# Altium integrated library Linear Technology Power Management Switching Regulator LTC1174-LTC3901.IntLib: 2647 symbols (part 265 of 364)
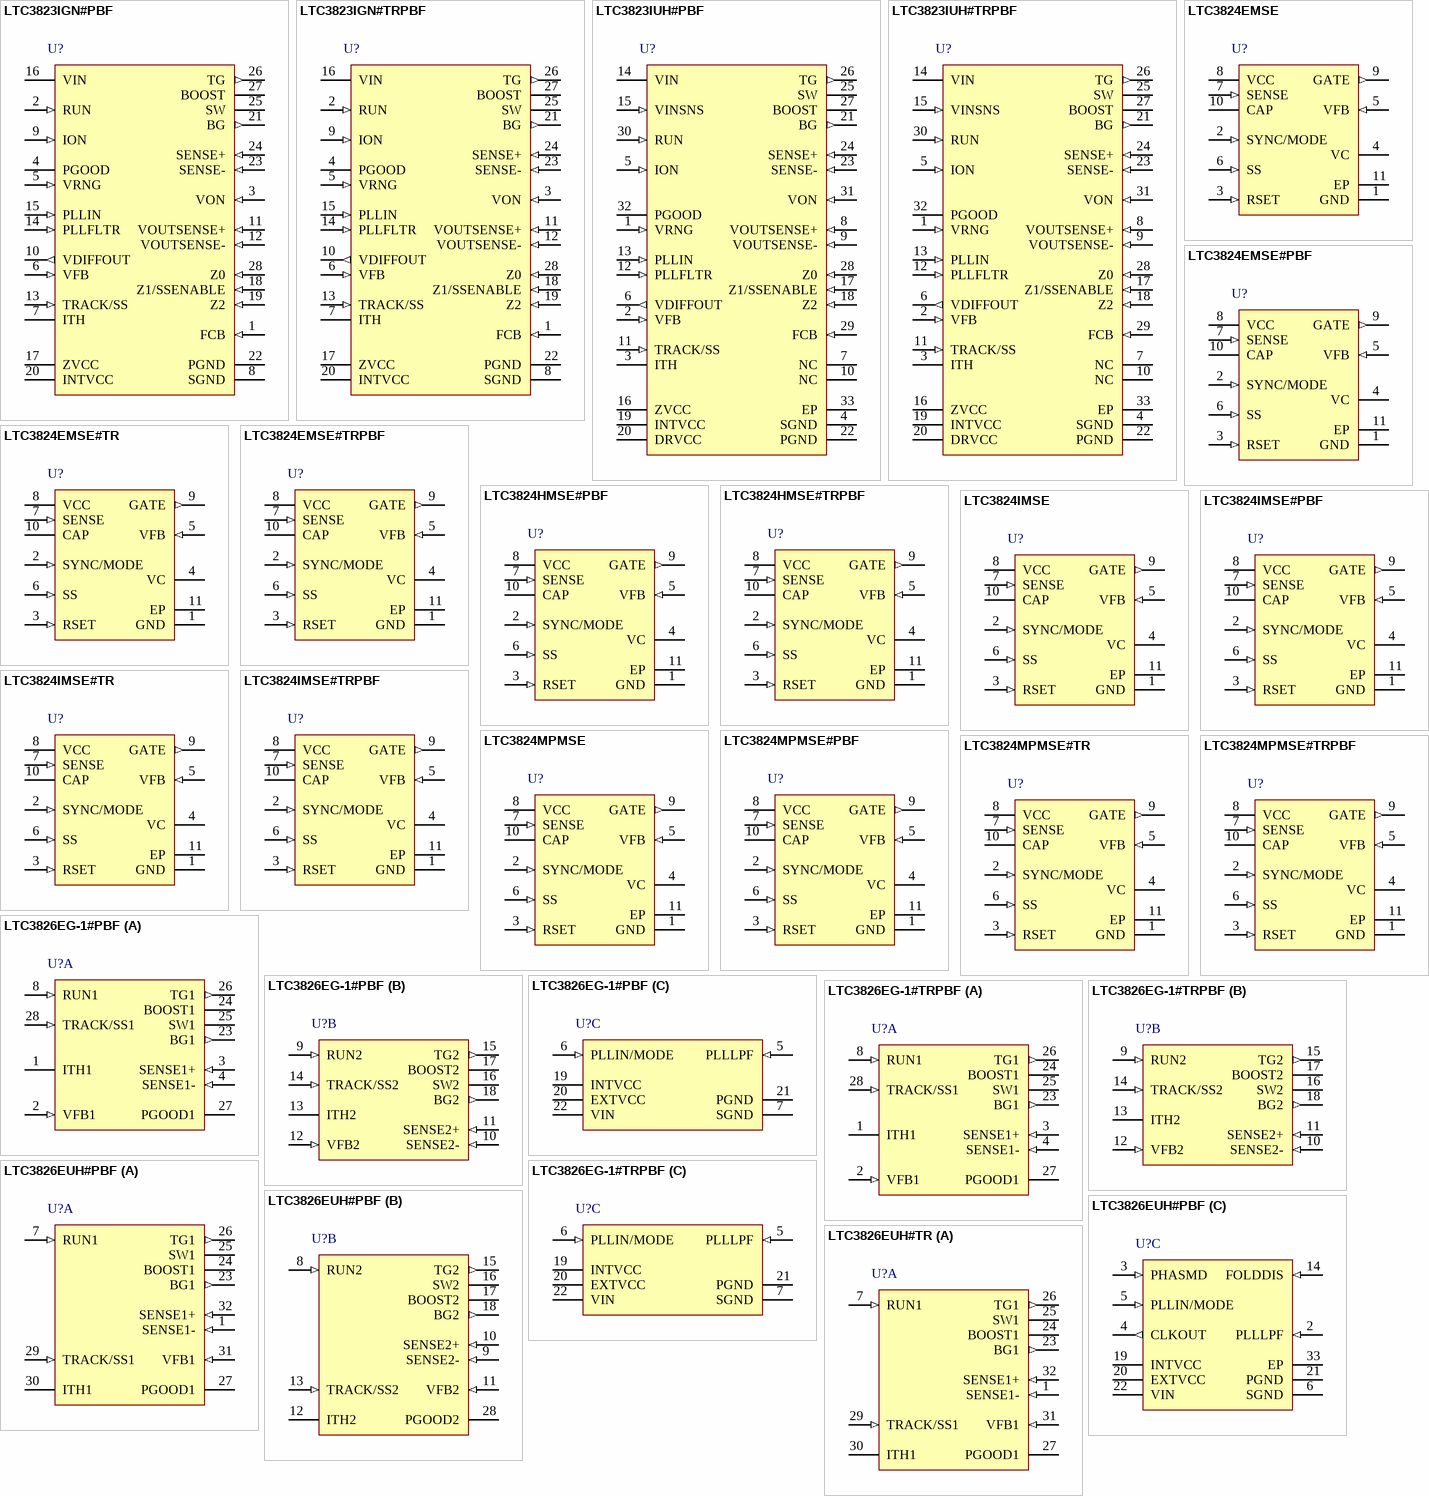
[diagram p252: symbols LTC3823IGN#PBF to LTC3826EUH#TR]

## LTC3824IMSE
designator U?
High Voltage Step-Down Controller with 40 uA Quiescent Current, 10-pin SOP (MSE-10-EDP), -40 to 125 degC; Manufacturer: Linear Technology; PartNumber: LTC3824IMSE; Frequency Sync Range: 200kHz - 600kHz; Number of Outputs: 1; DatasheetVersion: Rev. G; PackageVersion: Rev. I, 05/2013; PackageReference: MSE-10; PackageDescription: 10-Pin Plastic MSOP, Exposed Die Pad, Body 3 x 3 mm, Pitch 0.5 mm; Supplier 1: Newark; Supplier Part Number 1: 56M8528; RoHS: FALSE; Mounting Technology: Surface Mount; ComponentLink1Description: Manufacturer URL; ComponentLink1URL: http://www.linear.com/; ComponentLink2Description: Datasheet; ComponentLink2URL: http://cds.linear.com/docs/en/datasheet/3824fg.pdf; ComponentLink3Description: Package Specification; ComponentLink3URL: http://cds.linear.com/docs/en/packaging/05081664_I_MSE.pdf
footprint LT-MSE-10-EDP_N (SOP, 10-Leads, Body 3.1x3.1mm, Pitch 0.5mm, Thermal Pad 1.88x1.68mm, IPC Medium Density)
footprint LT-MSE-10-EDP_L (SOP, 10-Leads, Body 3.1x3.1mm, Pitch 0.5mm, Thermal Pad 1.88x1.68mm, IPC High Density)
footprint LT-MSE-10-EDP_M (SOP, 10-Leads, Body 3.1x3.1mm, Pitch 0.5mm, Thermal Pad 1.88x1.68mm, IPC Low Density)
pins: 1 GND (power) "Chip Ground Pin.", 2 SYNC/MODE (in) "Synchronization Input and Burst Mode Operation Enable/Disable. If this pin is left open or pulled higher than 2V, Burst Mode operation will be enabled at light load and the typical threshold of entering Burst Mode operation (See Datasheet)", 3 RSET (in) "A resistor from RSET to ground sets the LTC3824 switching frequency.", 4 VC "The Output of the voltage error amplifier gm and the control signal of the current mode PWM control loop. Switching starts at 0.7V, and higher VC corresponds to higher inductor current. When VC is pulled below 25mV, the (See Datasheet)", 5 VFB (in) "Error Amplifier Inverting Input. A resistor divider to this pin sets the output voltage. When VFB is less than 0.5V, the switching frequency will fold back to 50kHz to reduce the minimum on-cycle.", 6 SS (in) "Soft-Start Pin. A capacitor on this pin sets the output ramp-up rate. The typical time for SS to reach the programmed level is (C • 0.8V)/5uA.", 7 SENSE (in) "Current Sense Input Pin. A sense resistor, RS, from VIN to SENSE sets the current limit to 100mV/RS.", 8 VCC (power) "Chip Power Supply. Power supply bypassing is required.", 9 GATE (out) "Gate Drive for The External P-channel MOSFET. Typical peak drive current is 2.5A and the drive voltage is clamped to 8V when VCC is higher than 9V.", 10 CAP "A Low ESR Capacitor of at Least 0.1uF is required from this pin to VCC to bypass the internal regulator for biasing the gate driver circuitry.", 11 EP (power) "Ground. Must be soldered to PCB with expanded metal trace for rated thermal performance."

## LTC3824IMSE#PBF
designator U?
High Voltage Step-Down Controller with 40 uA Quiescent Current, 10-pin SOP (MSE-10-EDP), -40 to 125 degC, Pb-Free; Manufacturer: Linear Technology; PartNumber: LTC3824IMSE#PBF; Frequency Sync Range: 200kHz - 600kHz; Number of Outputs: 1; DatasheetVersion: Rev. G; PackageVersion: Rev. I, 05/2013; PackageReference: MSE-10; PackageDescription: 10-Pin Plastic MSOP, Exposed Die Pad, Body 3 x 3 mm, Pitch 0.5 mm; Supplier 1: Digi-Key; Supplier Part Number 1: LTC3824IMSE#PBF-ND; Supplier 2: Farnell; Supplier Part Number 2: 2295158; Supplier 3: Newark; Supplier Part Number 3: 56M8529; RoHS: TRUE; Mounting Technology: Surface Mount; ComponentLink1Description: Manufacturer URL; ComponentLink1URL: http://www.linear.com/; ComponentLink2Description: Datasheet; ComponentLink2URL: http://cds.linear.com/docs/en/datasheet/3824fg.pdf; ComponentLink3Description: Package Specification; ComponentLink3URL: http://cds.linear.com/docs/en/packaging/05081664_I_MSE.pdf
footprint LT-MSE-10-EDP_N (SOP, 10-Leads, Body 3.1x3.1mm, Pitch 0.5mm, Thermal Pad 1.88x1.68mm, IPC Medium Density)
footprint LT-MSE-10-EDP_L (SOP, 10-Leads, Body 3.1x3.1mm, Pitch 0.5mm, Thermal Pad 1.88x1.68mm, IPC High Density)
footprint LT-MSE-10-EDP_M (SOP, 10-Leads, Body 3.1x3.1mm, Pitch 0.5mm, Thermal Pad 1.88x1.68mm, IPC Low Density)
pins: 1 GND (power) "Chip Ground Pin.", 2 SYNC/MODE (in) "Synchronization Input and Burst Mode Operation Enable/Disable. If this pin is left open or pulled higher than 2V, Burst Mode operation will be enabled at light load and the typical threshold of entering Burst Mode operation (See Datasheet)", 3 RSET (in) "A resistor from RSET to ground sets the LTC3824 switching frequency.", 4 VC "The Output of the voltage error amplifier gm and the control signal of the current mode PWM control loop. Switching starts at 0.7V, and higher VC corresponds to higher inductor current. When VC is pulled below 25mV, the (See Datasheet)", 5 VFB (in) "Error Amplifier Inverting Input. A resistor divider to this pin sets the output voltage. When VFB is less than 0.5V, the switching frequency will fold back to 50kHz to reduce the minimum on-cycle.", 6 SS (in) "Soft-Start Pin. A capacitor on this pin sets the output ramp-up rate. The typical time for SS to reach the programmed level is (C • 0.8V)/5uA.", 7 SENSE (in) "Current Sense Input Pin. A sense resistor, RS, from VIN to SENSE sets the current limit to 100mV/RS.", 8 VCC (power) "Chip Power Supply. Power supply bypassing is required.", 9 GATE (out) "Gate Drive for The External P-channel MOSFET. Typical peak drive current is 2.5A and the drive voltage is clamped to 8V when VCC is higher than 9V.", 10 CAP "A Low ESR Capacitor of at Least 0.1uF is required from this pin to VCC to bypass the internal regulator for biasing the gate driver circuitry.", 11 EP (power) "Ground. Must be soldered to PCB with expanded metal trace for rated thermal performance."

## LTC3824IMSE#TR
designator U?
High Voltage Step-Down Controller with 40 uA Quiescent Current, 10-pin SOP (MSE-10-EDP), -40 to 125 degC, Tape and Reel; Manufacturer: Linear Technology; PartNumber: LTC3824IMSE#TR; Frequency Sync Range: 200kHz - 600kHz; Number of Outputs: 1; DatasheetVersion: Rev. G; PackageVersion: Rev. I, 05/2013; PackageReference: MSE-10; PackageDescription: 10-Pin Plastic MSOP, Exposed Die Pad, Body 3 x 3 mm, Pitch 0.5 mm; Packing: Tape and Reel; RoHS: FALSE; Mounting Technology: Surface Mount; ComponentLink1Description: Manufacturer URL; ComponentLink1URL: http://www.linear.com/; ComponentLink2Description: Datasheet; ComponentLink2URL: http://cds.linear.com/docs/en/datasheet/3824fg.pdf; ComponentLink3Description: Package Specification; ComponentLink3URL: http://cds.linear.com/docs/en/packaging/05081664_I_MSE.pdf
footprint LT-MSE-10-EDP_N (SOP, 10-Leads, Body 3.1x3.1mm, Pitch 0.5mm, Thermal Pad 1.88x1.68mm, IPC Medium Density)
footprint LT-MSE-10-EDP_L (SOP, 10-Leads, Body 3.1x3.1mm, Pitch 0.5mm, Thermal Pad 1.88x1.68mm, IPC High Density)
footprint LT-MSE-10-EDP_M (SOP, 10-Leads, Body 3.1x3.1mm, Pitch 0.5mm, Thermal Pad 1.88x1.68mm, IPC Low Density)
pins: 1 GND (power) "Chip Ground Pin.", 2 SYNC/MODE (in) "Synchronization Input and Burst Mode Operation Enable/Disable. If this pin is left open or pulled higher than 2V, Burst Mode operation will be enabled at light load and the typical threshold of entering Burst Mode operation (See Datasheet)", 3 RSET (in) "A resistor from RSET to ground sets the LTC3824 switching frequency.", 4 VC "The Output of the voltage error amplifier gm and the control signal of the current mode PWM control loop. Switching starts at 0.7V, and higher VC corresponds to higher inductor current. When VC is pulled below 25mV, the (See Datasheet)", 5 VFB (in) "Error Amplifier Inverting Input. A resistor divider to this pin sets the output voltage. When VFB is less than 0.5V, the switching frequency will fold back to 50kHz to reduce the minimum on-cycle.", 6 SS (in) "Soft-Start Pin. A capacitor on this pin sets the output ramp-up rate. The typical time for SS to reach the programmed level is (C • 0.8V)/5uA.", 7 SENSE (in) "Current Sense Input Pin. A sense resistor, RS, from VIN to SENSE sets the current limit to 100mV/RS.", 8 VCC (power) "Chip Power Supply. Power supply bypassing is required.", 9 GATE (out) "Gate Drive for The External P-channel MOSFET. Typical peak drive current is 2.5A and the drive voltage is clamped to 8V when VCC is higher than 9V.", 10 CAP "A Low ESR Capacitor of at Least 0.1uF is required from this pin to VCC to bypass the internal regulator for biasing the gate driver circuitry.", 11 EP (power) "Ground. Must be soldered to PCB with expanded metal trace for rated thermal performance."

## LTC3824IMSE#TRPBF
designator U?
High Voltage Step-Down Controller with 40 uA Quiescent Current, 10-pin SOP (MSE-10-EDP), -40 to 125 degC, Pb-Free, Tape and Reel; Manufacturer: Linear Technology; PartNumber: LTC3824IMSE#TRPBF; Frequency Sync Range: 200kHz - 600kHz; Number of Outputs: 1; DatasheetVersion: Rev. G; PackageVersion: Rev. I, 05/2013; PackageReference: MSE-10; PackageDescription: 10-Pin Plastic MSOP, Exposed Die Pad, Body 3 x 3 mm, Pitch 0.5 mm; Supplier 1: Digi-Key; Supplier Part Number 1: LTC3824IMSE#TRPBF-ND; Supplier 2: Newark; Supplier Part Number 2: 56M8531; Packing: Tape and Reel; RoHS: TRUE; Mounting Technology: Surface Mount; ComponentLink1Description: Manufacturer URL; ComponentLink1URL: http://www.linear.com/; ComponentLink2Description: Datasheet; ComponentLink2URL: http://cds.linear.com/docs/en/datasheet/3824fg.pdf; ComponentLink3Description: Package Specification; ComponentLink3URL: http://cds.linear.com/docs/en/packaging/05081664_I_MSE.pdf
footprint LT-MSE-10-EDP_N (SOP, 10-Leads, Body 3.1x3.1mm, Pitch 0.5mm, Thermal Pad 1.88x1.68mm, IPC Medium Density)
footprint LT-MSE-10-EDP_L (SOP, 10-Leads, Body 3.1x3.1mm, Pitch 0.5mm, Thermal Pad 1.88x1.68mm, IPC High Density)
footprint LT-MSE-10-EDP_M (SOP, 10-Leads, Body 3.1x3.1mm, Pitch 0.5mm, Thermal Pad 1.88x1.68mm, IPC Low Density)
pins: 1 GND (power) "Chip Ground Pin.", 2 SYNC/MODE (in) "Synchronization Input and Burst Mode Operation Enable/Disable. If this pin is left open or pulled higher than 2V, Burst Mode operation will be enabled at light load and the typical threshold of entering Burst Mode operation (See Datasheet)", 3 RSET (in) "A resistor from RSET to ground sets the LTC3824 switching frequency.", 4 VC "The Output of the voltage error amplifier gm and the control signal of the current mode PWM control loop. Switching starts at 0.7V, and higher VC corresponds to higher inductor current. When VC is pulled below 25mV, the (See Datasheet)", 5 VFB (in) "Error Amplifier Inverting Input. A resistor divider to this pin sets the output voltage. When VFB is less than 0.5V, the switching frequency will fold back to 50kHz to reduce the minimum on-cycle.", 6 SS (in) "Soft-Start Pin. A capacitor on this pin sets the output ramp-up rate. The typical time for SS to reach the programmed level is (C • 0.8V)/5uA.", 7 SENSE (in) "Current Sense Input Pin. A sense resistor, RS, from VIN to SENSE sets the current limit to 100mV/RS.", 8 VCC (power) "Chip Power Supply. Power supply bypassing is required.", 9 GATE (out) "Gate Drive for The External P-channel MOSFET. Typical peak drive current is 2.5A and the drive voltage is clamped to 8V when VCC is higher than 9V.", 10 CAP "A Low ESR Capacitor of at Least 0.1uF is required from this pin to VCC to bypass the internal regulator for biasing the gate driver circuitry.", 11 EP (power) "Ground. Must be soldered to PCB with expanded metal trace for rated thermal performance."

## LTC3824MPMSE
designator U?
High Voltage Step-Down Controller with 40 uA Quiescent Current, 10-pin SOP (MSE-10-EDP), -55 to 150 degC; Manufacturer: Linear Technology; PartNumber: LTC3824MPMSE; Frequency Sync Range: 200kHz - 600kHz; Number of Outputs: 1; DatasheetVersion: Rev. G; PackageVersion: Rev. I, 05/2013; PackageReference: MSE-10; PackageDescription: 10-Pin Plastic MSOP, Exposed Die Pad, Body 3 x 3 mm, Pitch 0.5 mm; Supplier 1: Newark; Supplier Part Number 1: 51P4598; RoHS: FALSE; Mounting Technology: Surface Mount; ComponentLink1Description: Manufacturer URL; ComponentLink1URL: http://www.linear.com/; ComponentLink2Description: Datasheet; ComponentLink2URL: http://cds.linear.com/docs/en/datasheet/3824fg.pdf; ComponentLink3Description: Package Specification; ComponentLink3URL: http://cds.linear.com/docs/en/packaging/05081664_I_MSE.pdf
footprint LT-MSE-10-EDP_N (SOP, 10-Leads, Body 3.1x3.1mm, Pitch 0.5mm, Thermal Pad 1.88x1.68mm, IPC Medium Density)
footprint LT-MSE-10-EDP_L (SOP, 10-Leads, Body 3.1x3.1mm, Pitch 0.5mm, Thermal Pad 1.88x1.68mm, IPC High Density)
footprint LT-MSE-10-EDP_M (SOP, 10-Leads, Body 3.1x3.1mm, Pitch 0.5mm, Thermal Pad 1.88x1.68mm, IPC Low Density)
pins: 1 GND (power) "Chip Ground Pin.", 2 SYNC/MODE (in) "Synchronization Input and Burst Mode Operation Enable/Disable. If this pin is left open or pulled higher than 2V, Burst Mode operation will be enabled at light load and the typical threshold of entering Burst Mode operation (See Datasheet)", 3 RSET (in) "A resistor from RSET to ground sets the LTC3824 switching frequency.", 4 VC "The Output of the voltage error amplifier gm and the control signal of the current mode PWM control loop. Switching starts at 0.7V, and higher VC corresponds to higher inductor current. When VC is pulled below 25mV, the (See Datasheet)", 5 VFB (in) "Error Amplifier Inverting Input. A resistor divider to this pin sets the output voltage. When VFB is less than 0.5V, the switching frequency will fold back to 50kHz to reduce the minimum on-cycle.", 6 SS (in) "Soft-Start Pin. A capacitor on this pin sets the output ramp-up rate. The typical time for SS to reach the programmed level is (C • 0.8V)/5uA.", 7 SENSE (in) "Current Sense Input Pin. A sense resistor, RS, from VIN to SENSE sets the current limit to 100mV/RS.", 8 VCC (power) "Chip Power Supply. Power supply bypassing is required.", 9 GATE (out) "Gate Drive for The External P-channel MOSFET. Typical peak drive current is 2.5A and the drive voltage is clamped to 8V when VCC is higher than 9V.", 10 CAP "A Low ESR Capacitor of at Least 0.1uF is required from this pin to VCC to bypass the internal regulator for biasing the gate driver circuitry.", 11 EP (power) "Ground. Must be soldered to PCB with expanded metal trace for rated thermal performance."

## LTC3824MPMSE#PBF
designator U?
High Voltage Step-Down Controller with 40 uA Quiescent Current, 10-pin SOP (MSE-10-EDP), -55 to 150 degC, Pb-Free; Manufacturer: Linear Technology; PartNumber: LTC3824MPMSE#PBF; Frequency Sync Range: 200kHz - 600kHz; Number of Outputs: 1; DatasheetVersion: Rev. G; PackageVersion: Rev. I, 05/2013; PackageReference: MSE-10; PackageDescription: 10-Pin Plastic MSOP, Exposed Die Pad, Body 3 x 3 mm, Pitch 0.5 mm; Supplier 1: Digi-Key; Supplier Part Number 1: LTC3824MPMSE#PBF-ND; Supplier 2: Farnell; Supplier Part Number 2: 2295159; Supplier 3: Newark; Supplier Part Number 3: 78T3253; RoHS: TRUE; Mounting Technology: Surface Mount; ComponentLink1Description: Manufacturer URL; ComponentLink1URL: http://www.linear.com/; ComponentLink2Description: Datasheet; ComponentLink2URL: http://cds.linear.com/docs/en/datasheet/3824fg.pdf; ComponentLink3Description: Package Specification; ComponentLink3URL: http://cds.linear.com/docs/en/packaging/05081664_I_MSE.pdf
footprint LT-MSE-10-EDP_N (SOP, 10-Leads, Body 3.1x3.1mm, Pitch 0.5mm, Thermal Pad 1.88x1.68mm, IPC Medium Density)
footprint LT-MSE-10-EDP_L (SOP, 10-Leads, Body 3.1x3.1mm, Pitch 0.5mm, Thermal Pad 1.88x1.68mm, IPC High Density)
footprint LT-MSE-10-EDP_M (SOP, 10-Leads, Body 3.1x3.1mm, Pitch 0.5mm, Thermal Pad 1.88x1.68mm, IPC Low Density)
pins: 1 GND (power) "Chip Ground Pin.", 2 SYNC/MODE (in) "Synchronization Input and Burst Mode Operation Enable/Disable. If this pin is left open or pulled higher than 2V, Burst Mode operation will be enabled at light load and the typical threshold of entering Burst Mode operation (See Datasheet)", 3 RSET (in) "A resistor from RSET to ground sets the LTC3824 switching frequency.", 4 VC "The Output of the voltage error amplifier gm and the control signal of the current mode PWM control loop. Switching starts at 0.7V, and higher VC corresponds to higher inductor current. When VC is pulled below 25mV, the (See Datasheet)", 5 VFB (in) "Error Amplifier Inverting Input. A resistor divider to this pin sets the output voltage. When VFB is less than 0.5V, the switching frequency will fold back to 50kHz to reduce the minimum on-cycle.", 6 SS (in) "Soft-Start Pin. A capacitor on this pin sets the output ramp-up rate. The typical time for SS to reach the programmed level is (C • 0.8V)/5uA.", 7 SENSE (in) "Current Sense Input Pin. A sense resistor, RS, from VIN to SENSE sets the current limit to 100mV/RS.", 8 VCC (power) "Chip Power Supply. Power supply bypassing is required.", 9 GATE (out) "Gate Drive for The External P-channel MOSFET. Typical peak drive current is 2.5A and the drive voltage is clamped to 8V when VCC is higher than 9V.", 10 CAP "A Low ESR Capacitor of at Least 0.1uF is required from this pin to VCC to bypass the internal regulator for biasing the gate driver circuitry.", 11 EP (power) "Ground. Must be soldered to PCB with expanded metal trace for rated thermal performance."

## LTC3824MPMSE#TR
designator U?
High Voltage Step-Down Controller with 40 uA Quiescent Current, 10-pin SOP (MSE-10-EDP), -55 to 150 degC, Tape and Reel; Manufacturer: Linear Technology; PartNumber: LTC3824MPMSE#TR; Frequency Sync Range: 200kHz - 600kHz; Number of Outputs: 1; DatasheetVersion: Rev. G; PackageVersion: Rev. I, 05/2013; PackageReference: MSE-10; PackageDescription: 10-Pin Plastic MSOP, Exposed Die Pad, Body 3 x 3 mm, Pitch 0.5 mm; Packing: Tape and Reel; RoHS: FALSE; Mounting Technology: Surface Mount; ComponentLink1Description: Manufacturer URL; ComponentLink1URL: http://www.linear.com/; ComponentLink2Description: Datasheet; ComponentLink2URL: http://cds.linear.com/docs/en/datasheet/3824fg.pdf; ComponentLink3Description: Package Specification; ComponentLink3URL: http://cds.linear.com/docs/en/packaging/05081664_I_MSE.pdf
footprint LT-MSE-10-EDP_N (SOP, 10-Leads, Body 3.1x3.1mm, Pitch 0.5mm, Thermal Pad 1.88x1.68mm, IPC Medium Density)
footprint LT-MSE-10-EDP_L (SOP, 10-Leads, Body 3.1x3.1mm, Pitch 0.5mm, Thermal Pad 1.88x1.68mm, IPC High Density)
footprint LT-MSE-10-EDP_M (SOP, 10-Leads, Body 3.1x3.1mm, Pitch 0.5mm, Thermal Pad 1.88x1.68mm, IPC Low Density)
pins: 1 GND (power) "Chip Ground Pin.", 2 SYNC/MODE (in) "Synchronization Input and Burst Mode Operation Enable/Disable. If this pin is left open or pulled higher than 2V, Burst Mode operation will be enabled at light load and the typical threshold of entering Burst Mode operation (See Datasheet)", 3 RSET (in) "A resistor from RSET to ground sets the LTC3824 switching frequency.", 4 VC "The Output of the voltage error amplifier gm and the control signal of the current mode PWM control loop. Switching starts at 0.7V, and higher VC corresponds to higher inductor current. When VC is pulled below 25mV, the (See Datasheet)", 5 VFB (in) "Error Amplifier Inverting Input. A resistor divider to this pin sets the output voltage. When VFB is less than 0.5V, the switching frequency will fold back to 50kHz to reduce the minimum on-cycle.", 6 SS (in) "Soft-Start Pin. A capacitor on this pin sets the output ramp-up rate. The typical time for SS to reach the programmed level is (C • 0.8V)/5uA.", 7 SENSE (in) "Current Sense Input Pin. A sense resistor, RS, from VIN to SENSE sets the current limit to 100mV/RS.", 8 VCC (power) "Chip Power Supply. Power supply bypassing is required.", 9 GATE (out) "Gate Drive for The External P-channel MOSFET. Typical peak drive current is 2.5A and the drive voltage is clamped to 8V when VCC is higher than 9V.", 10 CAP "A Low ESR Capacitor of at Least 0.1uF is required from this pin to VCC to bypass the internal regulator for biasing the gate driver circuitry.", 11 EP (power) "Ground. Must be soldered to PCB with expanded metal trace for rated thermal performance."

## LTC3824MPMSE#TRPBF
designator U?
High Voltage Step-Down Controller with 40 uA Quiescent Current, 10-pin SOP (MSE-10-EDP), -55 to 150 degC, Pb-Free, Tape and Reel; Manufacturer: Linear Technology; PartNumber: LTC3824MPMSE#TRPBF; Frequency Sync Range: 200kHz - 600kHz; Number of Outputs: 1; DatasheetVersion: Rev. G; PackageVersion: Rev. I, 05/2013; PackageReference: MSE-10; PackageDescription: 10-Pin Plastic MSOP, Exposed Die Pad, Body 3 x 3 mm, Pitch 0.5 mm; Supplier 1: Digi-Key; Supplier Part Number 1: LTC3824MPMSE#TRPBF-ND; Packing: Tape and Reel; RoHS: TRUE; Mounting Technology: Surface Mount; ComponentLink1Description: Manufacturer URL; ComponentLink1URL: http://www.linear.com/; ComponentLink2Description: Datasheet; ComponentLink2URL: http://cds.linear.com/docs/en/datasheet/3824fg.pdf; ComponentLink3Description: Package Specification; ComponentLink3URL: http://cds.linear.com/docs/en/packaging/05081664_I_MSE.pdf
footprint LT-MSE-10-EDP_N (SOP, 10-Leads, Body 3.1x3.1mm, Pitch 0.5mm, Thermal Pad 1.88x1.68mm, IPC Medium Density)
footprint LT-MSE-10-EDP_L (SOP, 10-Leads, Body 3.1x3.1mm, Pitch 0.5mm, Thermal Pad 1.88x1.68mm, IPC High Density)
footprint LT-MSE-10-EDP_M (SOP, 10-Leads, Body 3.1x3.1mm, Pitch 0.5mm, Thermal Pad 1.88x1.68mm, IPC Low Density)
pins: 1 GND (power) "Chip Ground Pin.", 2 SYNC/MODE (in) "Synchronization Input and Burst Mode Operation Enable/Disable. If this pin is left open or pulled higher than 2V, Burst Mode operation will be enabled at light load and the typical threshold of entering Burst Mode operation (See Datasheet)", 3 RSET (in) "A resistor from RSET to ground sets the LTC3824 switching frequency.", 4 VC "The Output of the voltage error amplifier gm and the control signal of the current mode PWM control loop. Switching starts at 0.7V, and higher VC corresponds to higher inductor current. When VC is pulled below 25mV, the (See Datasheet)", 5 VFB (in) "Error Amplifier Inverting Input. A resistor divider to this pin sets the output voltage. When VFB is less than 0.5V, the switching frequency will fold back to 50kHz to reduce the minimum on-cycle.", 6 SS (in) "Soft-Start Pin. A capacitor on this pin sets the output ramp-up rate. The typical time for SS to reach the programmed level is (C • 0.8V)/5uA.", 7 SENSE (in) "Current Sense Input Pin. A sense resistor, RS, from VIN to SENSE sets the current limit to 100mV/RS.", 8 VCC (power) "Chip Power Supply. Power supply bypassing is required.", 9 GATE (out) "Gate Drive for The External P-channel MOSFET. Typical peak drive current is 2.5A and the drive voltage is clamped to 8V when VCC is higher than 9V.", 10 CAP "A Low ESR Capacitor of at Least 0.1uF is required from this pin to VCC to bypass the internal regulator for biasing the gate driver circuitry.", 11 EP (power) "Ground. Must be soldered to PCB with expanded metal trace for rated thermal performance."

## LTC3826EG-1#PBF
designator U?
30 uA IQ, Dual, 2-Phase Synchronous Step-Down Controller, 28-pin SOP (G-28), -40 to 85 degC, Pb-Free; Manufacturer: Linear Technology; PartNumber: LTC3826EG-1#PBF; Frequency Sync Range: 140kHz - 650kHz; Number of Outputs: 2; DatasheetVersion: Rev. B; PackageVersion: Jun-10; PackageReference: G-28; PackageDescription: 28-Pin Plastic SSOP, Body 10.2 x 5.3 mm, Pitch 0.65 mm; Supplier 1: Digi-Key; Supplier Part Number 1: LTC3826EG-1#PBF-ND; RoHS: TRUE; Mounting Technology: Surface Mount; ComponentLink1Description: Manufacturer URL; ComponentLink1URL: http://www.linear.com/; ComponentLink2Description: Datasheet; ComponentLink2URL: http://cds.linear.com/docs/en/datasheet/38261fb.pdf; ComponentLink3Description: Package Specification; ComponentLink3URL: http://cds.linear.com/docs/en/packaging/SSOP_28_05-08-1640.pdf
footprint LT-G-28_N (SOP, 28-Leads, Body 10.2x5.3mm, Pitch 0.65mm, IPC Medium Density)
footprint LT-G-28_L (SOP, 28-Leads, Body 10.2x5.3mm, Pitch 0.65mm, IPC High Density)
footprint LT-G-28_M (SOP, 28-Leads, Body 10.2x5.3mm, Pitch 0.65mm, IPC Low Density)
part A pins: 1 ITH1 "Error Amplifier Outputs and Switching Regulator Compensation Points. Each associated channel’s current comparator trip point increases with this control voltage.", 2 VFB1 (in) "Receives the remotely sensed feedback voltage for each controller from an external resistive divider across the output.", 3 SENSE1+ (in) "The (+) Input to the Differential Current Comparators. The ITH pin voltage and controlled offsets between the SENSE- and SENSE+ pins in conjunction with RSENSE set the current trip threshold.", 4 SENSE1- (in) "The (-) Input to the Differential Current Comparators.", 8 RUN1 (in) "Digital Run Control Inputs for Each Controller. Forcing either of these pins below 0.7V shuts down that controller.", 23 BG1 (out) "High Current Gate Drives for Bottom (Synchronous) N-Channel MOSFETs. Voltage swing at these pins is from ground to INTVCC.", 24 BOOST1 "Bootstrapped Supplies to the Topside Floating Drivers. Capacitors are connected between the BOOST and SW pins and Schottky diodes are tied between the BOOST and INTVCC pins. Voltage swing at the BOOST pins is from INTVCC to (See Datasheet)", 25 SW1 "Switch Node Connections to Inductors. Voltage swing at these pins is from a Schottky diode (external) voltage drop below ground to VIN.", 26 TG1 (out) "High Current Gate Drives for Top N-Channel MOSFETs. These are the outputs of floating drivers with a voltage swing equal to INTVCC - 0.5V superimposed on the switch node voltage SW.", 27 PGOOD1 (oc) "Open-Drain Logic Output. PGOOD1 is pulled to ground when the voltage on the VFB1 pin is not within +/-10% of its set point.", 28 TRACK/SS1 (in) "External Tracking and Soft-Start Input."
part B pins: 9 RUN2 (in) "Digital Run Control Inputs for Each Controller. Forcing either of these pins below 0.7V shuts down that controller.", 10 SENSE2- (in) "The (-) Input to the Differential Current Comparators.", 11 SENSE2+ (in) "The (+) Input to the Differential Current Comparators. The ITH pin voltage and controlled offsets between the SENSE- and SENSE+ pins in conjunction with RSENSE set the current trip threshold.", 12 VFB2 (in) "Receives the remotely sensed feedback voltage for each controller from an external resistive divider across the output.", 13 ITH2 "Error Amplifier Outputs and Switching Regulator Compensation Points. Each associated channel’s current comparator trip point increases with this control voltage.", 14 TRACK/SS2 (in) "External Tracking and Soft-Start Input.", 15 TG2 (out) "High Current Gate Drives for Top N-Channel MOSFETs. These are the outputs of floating drivers with a voltage swing equal to INTVCC - 0.5V superimposed on the switch node voltage SW.", 16 SW2 "Switch Node Connections to Inductors. Voltage swing at these pins is from a Schottky diode (external) voltage drop below ground to VIN.", 17 BOOST2 "Bootstrapped Supplies to the Topside Floating Drivers. Capacitors are connected between the BOOST and SW pins and Schottky diodes are tied between the BOOST and INTVCC pins. Voltage swing at the BOOST pins is from INTVCC to (See Datasheet)", 18 BG2 (out) "High Current Gate Drives for Bottom (Synchronous) N-Channel MOSFETs. Voltage swing at these pins is from ground to INTVCC."
part C pins: 5 PLLLPF (in) "The phase-locked loop’s lowpass filter is tied to this pin when synchronizing to an external clock.", 6 PLLIN/MODE (in) "External Synchronization Input to Phase Detector and Forced Continuous Control Input.", 7 SGND (power) "Small-signal Ground common to both controllers, must be routed separately from high current grounds to the common (-) terminals of the CIN capacitors.", 19 INTVCC (power) "Output of the Internal Linear Low Dropout Regulator. The driver and control circuits are powered from this voltage source. Must be decoupled to power ground with a minimum of 4.7uF tantalum or other low ESR capacitor.", 20 EXTVCC (power) "External Power Input to an Internal LDO Connected to INTVCC. This LDO supplies INTVCC power, bypassing the internal LDO powered from VIN whenever EXTVCC is higher than 4.7V. See EXTVCC Connection in the Applications (See Datasheet)", 21 PGND (power) "Driver Power Ground. Connects to the sources of bottom (synchronous) N-channel MOSFETs, anodes of the Schottky rectifi ers and the (-) terminal(s) of CIN.", 22 VIN (power) "Main Supply Pin. A bypass capacitor should be tied between this pin and the signal ground pin."

## LTC3826EG-1#TRPBF
designator U?
30 uA IQ, Dual, 2-Phase Synchronous Step-Down Controller, 28-pin SOP (G-28), -40 to 85 degC, Pb-Free, Tape and Reel; Manufacturer: Linear Technology; PartNumber: LTC3826EG-1#TRPBF; Frequency Sync Range: 140kHz - 650kHz; Number of Outputs: 2; DatasheetVersion: Rev. B; PackageVersion: Jun-10; PackageReference: G-28; PackageDescription: 28-Pin Plastic SSOP, Body 10.2 x 5.3 mm, Pitch 0.65 mm; Supplier 1: Digi-Key; Supplier Part Number 1: LTC3826EG-1#TRPBF-ND; Packing: Tape and Reel; RoHS: TRUE; Mounting Technology: Surface Mount; ComponentLink1Description: Manufacturer URL; ComponentLink1URL: http://www.linear.com/; ComponentLink2Description: Datasheet; ComponentLink2URL: http://cds.linear.com/docs/en/datasheet/38261fb.pdf; ComponentLink3Description: Package Specification; ComponentLink3URL: http://cds.linear.com/docs/en/packaging/SSOP_28_05-08-1640.pdf
footprint LT-G-28_N (SOP, 28-Leads, Body 10.2x5.3mm, Pitch 0.65mm, IPC Medium Density)
footprint LT-G-28_L (SOP, 28-Leads, Body 10.2x5.3mm, Pitch 0.65mm, IPC High Density)
footprint LT-G-28_M (SOP, 28-Leads, Body 10.2x5.3mm, Pitch 0.65mm, IPC Low Density)
part A pins: 1 ITH1 "Error Amplifier Outputs and Switching Regulator Compensation Points. Each associated channel’s current comparator trip point increases with this control voltage.", 2 VFB1 (in) "Receives the remotely sensed feedback voltage for each controller from an external resistive divider across the output.", 3 SENSE1+ (in) "The (+) Input to the Differential Current Comparators. The ITH pin voltage and controlled offsets between the SENSE- and SENSE+ pins in conjunction with RSENSE set the current trip threshold.", 4 SENSE1- (in) "The (-) Input to the Differential Current Comparators.", 8 RUN1 (in) "Digital Run Control Inputs for Each Controller. Forcing either of these pins below 0.7V shuts down that controller.", 23 BG1 (out) "High Current Gate Drives for Bottom (Synchronous) N-Channel MOSFETs. Voltage swing at these pins is from ground to INTVCC.", 24 BOOST1 "Bootstrapped Supplies to the Topside Floating Drivers. Capacitors are connected between the BOOST and SW pins and Schottky diodes are tied between the BOOST and INTVCC pins. Voltage swing at the BOOST pins is from INTVCC to (See Datasheet)", 25 SW1 "Switch Node Connections to Inductors. Voltage swing at these pins is from a Schottky diode (external) voltage drop below ground to VIN.", 26 TG1 (out) "High Current Gate Drives for Top N-Channel MOSFETs. These are the outputs of floating drivers with a voltage swing equal to INTVCC - 0.5V superimposed on the switch node voltage SW.", 27 PGOOD1 (oc) "Open-Drain Logic Output. PGOOD1 is pulled to ground when the voltage on the VFB1 pin is not within +/-10% of its set point.", 28 TRACK/SS1 (in) "External Tracking and Soft-Start Input."
part B pins: 9 RUN2 (in) "Digital Run Control Inputs for Each Controller. Forcing either of these pins below 0.7V shuts down that controller.", 10 SENSE2- (in) "The (-) Input to the Differential Current Comparators.", 11 SENSE2+ (in) "The (+) Input to the Differential Current Comparators. The ITH pin voltage and controlled offsets between the SENSE- and SENSE+ pins in conjunction with RSENSE set the current trip threshold.", 12 VFB2 (in) "Receives the remotely sensed feedback voltage for each controller from an external resistive divider across the output.", 13 ITH2 "Error Amplifier Outputs and Switching Regulator Compensation Points. Each associated channel’s current comparator trip point increases with this control voltage.", 14 TRACK/SS2 (in) "External Tracking and Soft-Start Input.", 15 TG2 (out) "High Current Gate Drives for Top N-Channel MOSFETs. These are the outputs of floating drivers with a voltage swing equal to INTVCC - 0.5V superimposed on the switch node voltage SW.", 16 SW2 "Switch Node Connections to Inductors. Voltage swing at these pins is from a Schottky diode (external) voltage drop below ground to VIN.", 17 BOOST2 "Bootstrapped Supplies to the Topside Floating Drivers. Capacitors are connected between the BOOST and SW pins and Schottky diodes are tied between the BOOST and INTVCC pins. Voltage swing at the BOOST pins is from INTVCC to (See Datasheet)", 18 BG2 (out) "High Current Gate Drives for Bottom (Synchronous) N-Channel MOSFETs. Voltage swing at these pins is from ground to INTVCC."
part C pins: 5 PLLLPF (in) "The phase-locked loop’s lowpass filter is tied to this pin when synchronizing to an external clock.", 6 PLLIN/MODE (in) "External Synchronization Input to Phase Detector and Forced Continuous Control Input.", 7 SGND (power) "Small-signal Ground common to both controllers, must be routed separately from high current grounds to the common (-) terminals of the CIN capacitors.", 19 INTVCC (power) "Output of the Internal Linear Low Dropout Regulator. The driver and control circuits are powered from this voltage source. Must be decoupled to power ground with a minimum of 4.7uF tantalum or other low ESR capacitor.", 20 EXTVCC (power) "External Power Input to an Internal LDO Connected to INTVCC. This LDO supplies INTVCC power, bypassing the internal LDO powered from VIN whenever EXTVCC is higher than 4.7V. See EXTVCC Connection in the Applications (See Datasheet)", 21 PGND (power) "Driver Power Ground. Connects to the sources of bottom (synchronous) N-channel MOSFETs, anodes of the Schottky rectifi ers and the (-) terminal(s) of CIN.", 22 VIN (power) "Main Supply Pin. A bypass capacitor should be tied between this pin and the signal ground pin."

## LTC3826EUH#PBF
designator U?
30 uA IQ, Dual, 2-Phase Synchronous Step-Down Controller, 32-pin QFN (UH-32), -40 to 85 degC, Pb-Free; Manufacturer: Linear Technology; PartNumber: LTC3826EUH#PBF; Frequency Sync Range: 140kHz - 650kHz; Number of Outputs: 2; DatasheetVersion: Rev. C; PackageVersion: Rev. D, 06/2010; PackageReference: UH-32; PackageDescription: 32-Pin Plastic QFN, Body 5 x 5 mm, Pitch 0.5 mm; Supplier 1: Digi-Key; Supplier Part Number 1: LTC3826EUH#PBF-ND; RoHS: TRUE; Mounting Technology: Surface Mount; Code_JEDEC: MO-220; ComponentLink1Description: Manufacturer URL; ComponentLink1URL: http://www.linear.com/; ComponentLink2Description: Datasheet; ComponentLink2URL: http://cds.linear.com/docs/en/datasheet/3826fc.pdf; ComponentLink3Description: Package Specification; ComponentLink3URL: http://cds.linear.com/docs/en/packaging/QFN_32_05-08-1693.pdf
footprint LT-UH-32_N (QFN, 32-Leads, Body 5.1x5.1mm, Pitch 0.5mm, Thermal Pad 3.45X3.45mm, IPC Medium Density)
footprint LT-UH-32_L (QFN, 32-Leads, Body 5.1x5.1mm, Pitch 0.5mm, Thermal Pad 3.45X3.45mm, IPC High Density)
footprint LT-UH-32_M (QFN, 32-Leads, Body 5.1x5.1mm, Pitch 0.5mm, Thermal Pad 3.45X3.45mm, IPC Low Density)
part A pins: 1 SENSE1- (in) "The (-) Input to the  Differential Current Comparators.", 7 RUN1 (in) "Digital Run Control Inputs for  Each Controller. Forcing either of these pins below 0.7V  shuts down that controller. Forcing both of these pins below  0.7V shuts down the entire LTC3826, reducing quiescent  current to (See Datasheet)", 23 BG1 (out) "High Current Gate Drives for Bottom (Synchronous) N-Channel MOSFETs. Voltage swing  at these pins is from ground to INTVCC.", 24 BOOST1 "Bootstrapped Supplies  to the Top Side Floating Drivers. Capacitors are connected  between the BOOST and SW pins and Schottky diodes are  tied between the BOOST and INTVCC pins. Voltage swing  at the BOOST pins is from (See Datasheet)", 25 SW1 "Switch Node Connections to  Inductors. Voltage swing at these pins is from a Schottky  diode (external) voltage drop below ground to VIN.", 26 TG1 (out) "High Current Gate Drives for  Top N-Channel MOSFETs. These are the outputs of ? oating drivers with a voltage swing equal to INTVCC - 0.5V  superimposed on the switch node voltage SW.", 27 PGOOD1 (oc) "Open-Drain Logic Output. PGOOD1 is  pulled to ground when the voltage on the VFB1 pin is not  within +/-10% of its set point.", 29 TRACK/SS1 (in) "External Tracking and Soft-Start Input. The LTC3826 regulates the  VFB1,2 voltage to the smaller of 0.8V or the voltage on the  TRACK/SS1,2 pin. An internal 1uA pull-up current source  is connected to this pin. A capacitor (See Datasheet)", 30 ITH1 "Error Ampli?er Outputs and  Switching Regulator Compensation Points. Each associated channel’s current comparator trip point increases  with this control voltage.", 31 VFB1 (in) "Receives the remotely sensed  feedback voltage for each controller from an external  resistive divider across the output.", 32 SENSE1+ (in) "The (+) Input to the  Differential Current Comparators. The ITH pin voltage and  controlled offsets between the SENSE-  and SENSE+  pins in  conjunction with RSENSE set the current trip threshold."
part B pins: 8 RUN2 (in) "Digital Run Control Inputs for  Each Controller. Forcing either of these pins below 0.7V  shuts down that controller. Forcing both of these pins below  0.7V shuts down the entire LTC3826, reducing quiescent  current to (See Datasheet)", 9 SENSE2- (in) "The (-) Input to the  Differential Current Comparators.", 10 SENSE2+ (in) "The (+) Input to the  Differential Current Comparators. The ITH pin voltage and  controlled offsets between the SENSE-  and SENSE+  pins in  conjunction with RSENSE set the current trip threshold.", 11 VFB2 (in) "Receives the remotely sensed  feedback voltage for each controller from an external  resistive divider across the output.", 12 ITH2 "Error Ampli?er Outputs and  Switching Regulator Compensation Points. Each associated channel’s current comparator trip point increases  with this control voltage.", 13 TRACK/SS2 (in) "External Tracking and Soft-Start Input. The LTC3826 regulates the  VFB1,2 voltage to the smaller of 0.8V or the voltage on the  TRACK/SS1,2 pin. An internal 1uA pull-up current source  is connected to this pin. A capacitor (See Datasheet)", 15 TG2 (out) "High Current Gate Drives for  Top N-Channel MOSFETs. These are the outputs of ? oating drivers with a voltage swing equal to INTVCC - 0.5V  superimposed on the switch node voltage SW.", 16 SW2 "Switch Node Connections to  Inductors. Voltage swing at these pins is from a Schottky  diode (external) voltage drop below ground to VIN.", 17 BOOST2 "Bootstrapped Supplies  to the Top Side Floating Drivers. Capacitors are connected  between the BOOST and SW pins and Schottky diodes are  tied between the BOOST and INTVCC pins. Voltage swing  at the BOOST pins is from (See Datasheet)", 18 BG2 (out) "High Current Gate Drives for Bottom (Synchronous) N-Channel MOSFETs. Voltage swing  at these pins is from ground to INTVCC.", 28 PGOOD2 (oc) "Open-Drain Logic Output. PGOOD2  is pulled to ground when the voltage on VFB2 pin is not  within +/-10% of its set point"
part C pins: 2 PLLLPF (in) "The phase-locked loop’s lowpass ? lter is  tied to this pin when synchronizing to an external clock.  Alternatively, tie this pin to GND, INTVCC or leave ? oating to  select 250kHz, 530kHz or 390kHz switching frequency.", 3 PHASMD (in) "Control Input to Phase Selector which  determines the phase relationships between controller 1,  controller 2 and the CLKOUT signal.", 4 CLKOUT (out) "Output Clock Signal available to daisychain other controller ICs for additional MOSFET driver  stages/phases.", 5 PLLIN/MODE (in) "External Synchronization Input to  Phase Detector and Forced Continuous Control Input. When  an external clock is applied to this pin, the phase-locked  loop will force the rising TG1 signal to be synchronized  with the (See Datasheet)", 6 SGND (power) "Small Signal Ground common to both  controllers, must be routed separately from high current  grounds to the common (-) terminals of the CIN capacitors. The Exposed Pad is SGND. It must be soldered to  PCB ground for rated (See Datasheet)", 14 FOLDDIS (in) "Foldback Current Disable Input Pin.  Driving this pin high (to INTVCC) disables foldback current  limiting during short-circuit or overcurrent conditions.", 19 INTVCC (power) "Output of the Internal Linear Low Dropout  Regulator. The driver and control circuits are powered  from this voltage source. Must be decoupled to power  ground with a minimum of 4.7uF tantalum or other low  ESR capacitor.", 20 EXTVCC (power) "External Power Input to an Internal LDO  Connected to INTVCC. This LDO supplies INTVCC power,  bypassing the internal LDO powered from VIN whenever  EXTVCC is higher than 4.7V. See EXTVCC Connection in  the Applications (See Datasheet)", 21 PGND (power) "Driver Power Ground. Connects to the  sources of bottom (synchronous) N-channel MOSFETs,  anodes of the Schottky recti? ers and the (-) terminal(s)  of CIN.", 22 VIN (power) "Main Supply Pin. A bypass capacitor should  be tied between this pin and the signal ground pin.", 33 EP (power) "Small Signal Ground common to both  controllers, must be routed separately from high current  grounds to the common (-) terminals of the CIN capacitors. The Exposed Pad is SGND. It must be soldered to  PCB ground for rated (See Datasheet)"

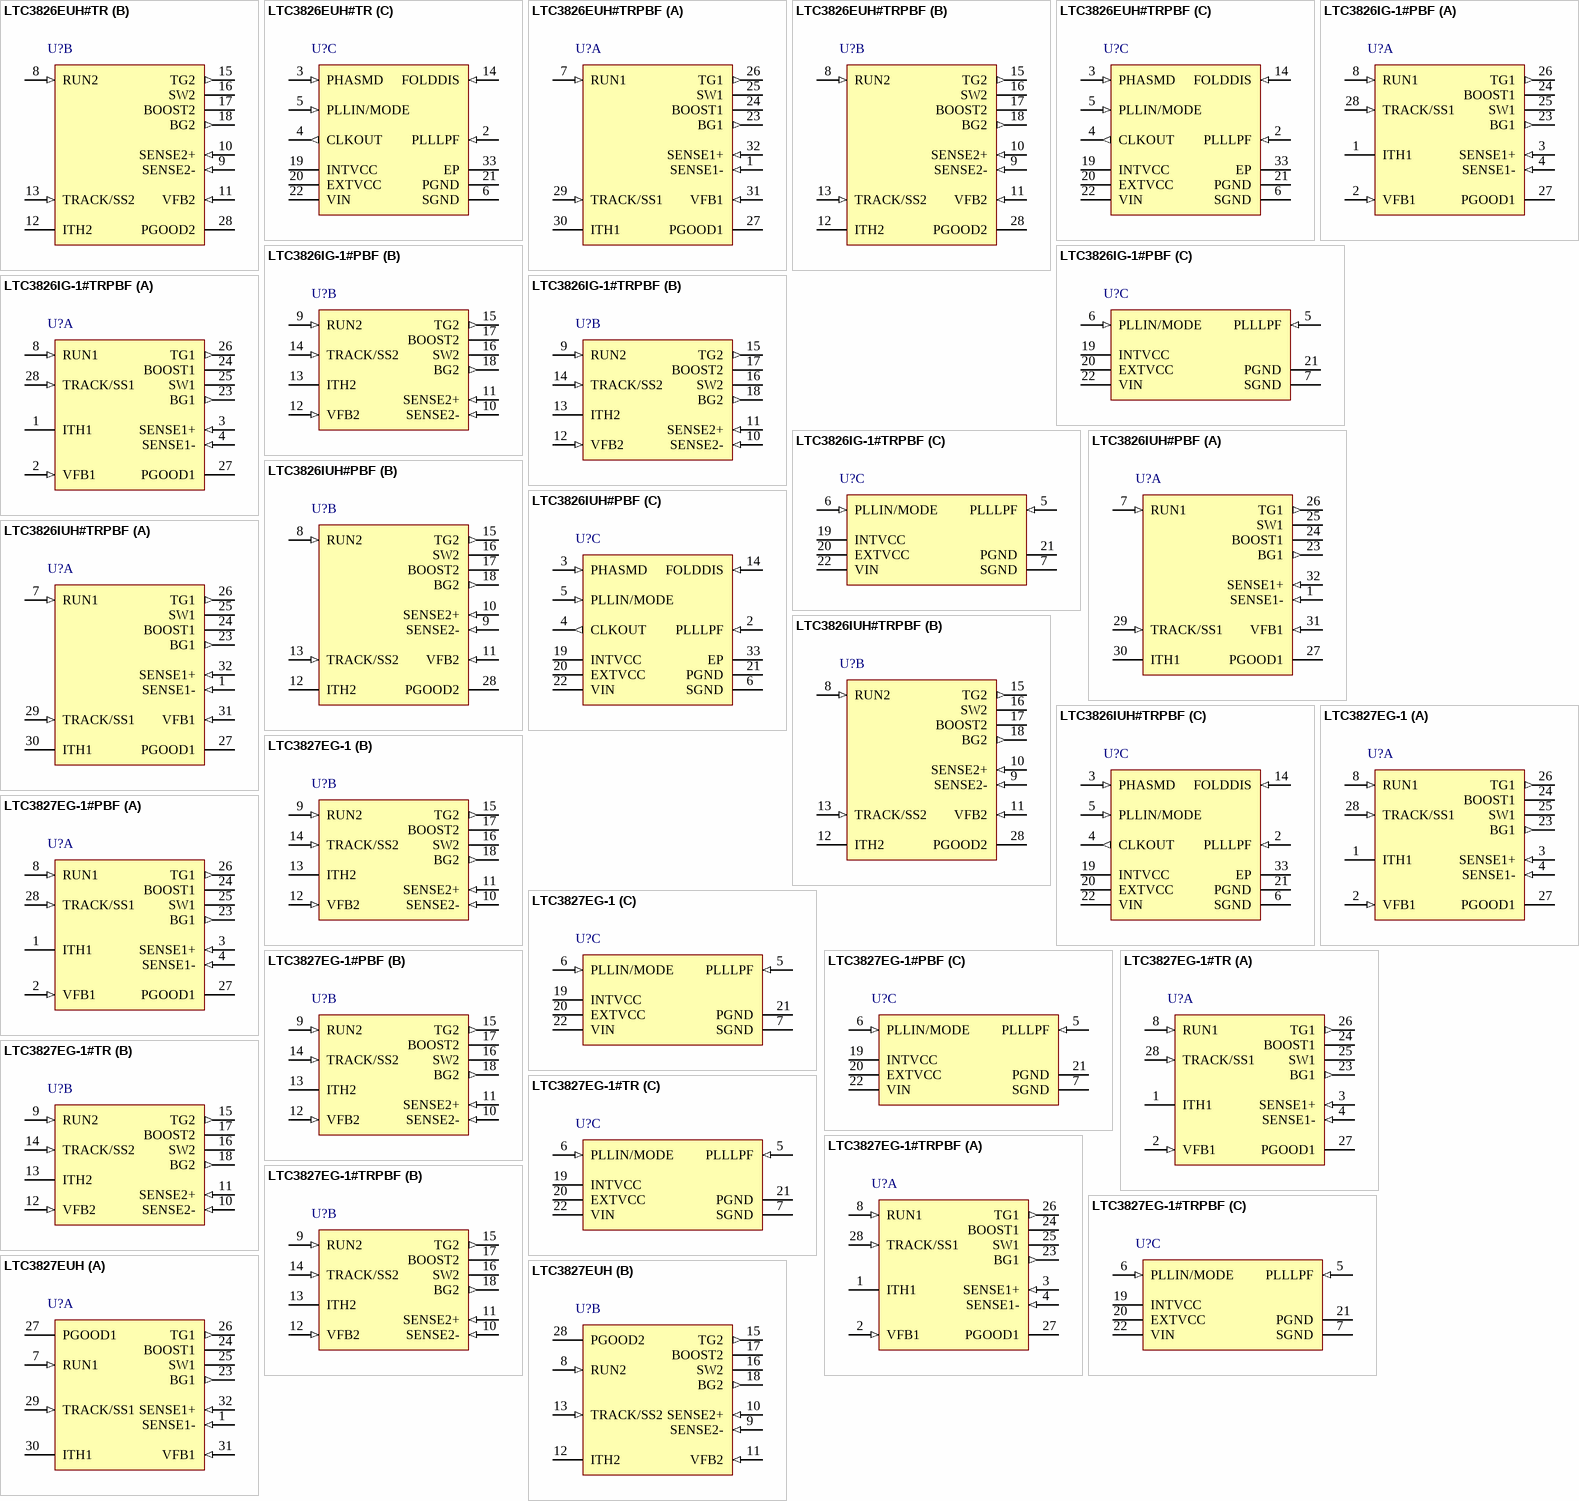
[diagram p82: symbols LTC3826EUH#TR to LTC3827EUH]

## LTC3826EUH#TR
designator U?
30 uA IQ, Dual, 2-Phase Synchronous Step-Down Controller, 32-pin QFN (UH-32), -40 to 85 degC, Tape and Reel; Manufacturer: Linear Technology; PartNumber: LTC3826EUH#TR; Frequency Sync Range: 140kHz - 650kHz; Number of Outputs: 2; DatasheetVersion: Rev. C; PackageVersion: Rev. D, 06/2010; PackageReference: UH-32; PackageDescription: 32-Pin Plastic QFN, Body 5 x 5 mm, Pitch 0.5 mm; Packing: Tape and Reel; RoHS: FALSE; Mounting Technology: Surface Mount; Code_JEDEC: MO-220; ComponentLink1Description: Manufacturer URL; ComponentLink1URL: http://www.linear.com/; ComponentLink2Description: Datasheet; ComponentLink2URL: http://cds.linear.com/docs/en/datasheet/3826fc.pdf; ComponentLink3Description: Package Specification; ComponentLink3URL: http://cds.linear.com/docs/en/packaging/QFN_32_05-08-1693.pdf
footprint LT-UH-32_N (QFN, 32-Leads, Body 5.1x5.1mm, Pitch 0.5mm, Thermal Pad 3.45X3.45mm, IPC Medium Density)
footprint LT-UH-32_L (QFN, 32-Leads, Body 5.1x5.1mm, Pitch 0.5mm, Thermal Pad 3.45X3.45mm, IPC High Density)
footprint LT-UH-32_M (QFN, 32-Leads, Body 5.1x5.1mm, Pitch 0.5mm, Thermal Pad 3.45X3.45mm, IPC Low Density)
part A pins: 1 SENSE1- (in) "The (-) Input to the  Differential Current Comparators.", 7 RUN1 (in) "Digital Run Control Inputs for  Each Controller. Forcing either of these pins below 0.7V  shuts down that controller. Forcing both of these pins below  0.7V shuts down the entire LTC3826, reducing quiescent  current to (See Datasheet)", 23 BG1 (out) "High Current Gate Drives for Bottom (Synchronous) N-Channel MOSFETs. Voltage swing  at these pins is from ground to INTVCC.", 24 BOOST1 "Bootstrapped Supplies  to the Top Side Floating Drivers. Capacitors are connected  between the BOOST and SW pins and Schottky diodes are  tied between the BOOST and INTVCC pins. Voltage swing  at the BOOST pins is from (See Datasheet)", 25 SW1 "Switch Node Connections to  Inductors. Voltage swing at these pins is from a Schottky  diode (external) voltage drop below ground to VIN.", 26 TG1 (out) "High Current Gate Drives for  Top N-Channel MOSFETs. These are the outputs of ? oating drivers with a voltage swing equal to INTVCC - 0.5V  superimposed on the switch node voltage SW.", 27 PGOOD1 (oc) "Open-Drain Logic Output. PGOOD1 is  pulled to ground when the voltage on the VFB1 pin is not  within +/-10% of its set point.", 29 TRACK/SS1 (in) "External Tracking and Soft-Start Input. The LTC3826 regulates the  VFB1,2 voltage to the smaller of 0.8V or the voltage on the  TRACK/SS1,2 pin. An internal 1uA pull-up current source  is connected to this pin. A capacitor (See Datasheet)", 30 ITH1 "Error Ampli?er Outputs and  Switching Regulator Compensation Points. Each associated channel’s current comparator trip point increases  with this control voltage.", 31 VFB1 (in) "Receives the remotely sensed  feedback voltage for each controller from an external  resistive divider across the output.", 32 SENSE1+ (in) "The (+) Input to the  Differential Current Comparators. The ITH pin voltage and  controlled offsets between the SENSE-  and SENSE+  pins in  conjunction with RSENSE set the current trip threshold."
part B pins: 8 RUN2 (in) "Digital Run Control Inputs for  Each Controller. Forcing either of these pins below 0.7V  shuts down that controller. Forcing both of these pins below  0.7V shuts down the entire LTC3826, reducing quiescent  current to (See Datasheet)", 9 SENSE2- (in) "The (-) Input to the  Differential Current Comparators.", 10 SENSE2+ (in) "The (+) Input to the  Differential Current Comparators. The ITH pin voltage and  controlled offsets between the SENSE-  and SENSE+  pins in  conjunction with RSENSE set the current trip threshold.", 11 VFB2 (in) "Receives the remotely sensed  feedback voltage for each controller from an external  resistive divider across the output.", 12 ITH2 "Error Ampli?er Outputs and  Switching Regulator Compensation Points. Each associated channel’s current comparator trip point increases  with this control voltage.", 13 TRACK/SS2 (in) "External Tracking and Soft-Start Input. The LTC3826 regulates the  VFB1,2 voltage to the smaller of 0.8V or the voltage on the  TRACK/SS1,2 pin. An internal 1uA pull-up current source  is connected to this pin. A capacitor (See Datasheet)", 15 TG2 (out) "High Current Gate Drives for  Top N-Channel MOSFETs. These are the outputs of ? oating drivers with a voltage swing equal to INTVCC - 0.5V  superimposed on the switch node voltage SW.", 16 SW2 "Switch Node Connections to  Inductors. Voltage swing at these pins is from a Schottky  diode (external) voltage drop below ground to VIN.", 17 BOOST2 "Bootstrapped Supplies  to the Top Side Floating Drivers. Capacitors are connected  between the BOOST and SW pins and Schottky diodes are  tied between the BOOST and INTVCC pins. Voltage swing  at the BOOST pins is from (See Datasheet)", 18 BG2 (out) "High Current Gate Drives for Bottom (Synchronous) N-Channel MOSFETs. Voltage swing  at these pins is from ground to INTVCC.", 28 PGOOD2 (oc) "Open-Drain Logic Output. PGOOD2  is pulled to ground when the voltage on VFB2 pin is not  within +/-10% of its set point"
part C pins: 2 PLLLPF (in) "The phase-locked loop’s lowpass ? lter is  tied to this pin when synchronizing to an external clock.  Alternatively, tie this pin to GND, INTVCC or leave ? oating to  select 250kHz, 530kHz or 390kHz switching frequency.", 3 PHASMD (in) "Control Input to Phase Selector which  determines the phase relationships between controller 1,  controller 2 and the CLKOUT signal.", 4 CLKOUT (out) "Output Clock Signal available to daisychain other controller ICs for additional MOSFET driver  stages/phases.", 5 PLLIN/MODE (in) "External Synchronization Input to  Phase Detector and Forced Continuous Control Input. When  an external clock is applied to this pin, the phase-locked  loop will force the rising TG1 signal to be synchronized  with the (See Datasheet)", 6 SGND (power) "Small Signal Ground common to both  controllers, must be routed separately from high current  grounds to the common (-) terminals of the CIN capacitors. The Exposed Pad is SGND. It must be soldered to  PCB ground for rated (See Datasheet)", 14 FOLDDIS (in) "Foldback Current Disable Input Pin.  Driving this pin high (to INTVCC) disables foldback current  limiting during short-circuit or overcurrent conditions.", 19 INTVCC (power) "Output of the Internal Linear Low Dropout  Regulator. The driver and control circuits are powered  from this voltage source. Must be decoupled to power  ground with a minimum of 4.7uF tantalum or other low  ESR capacitor.", 20 EXTVCC (power) "External Power Input to an Internal LDO  Connected to INTVCC. This LDO supplies INTVCC power,  bypassing the internal LDO powered from VIN whenever  EXTVCC is higher than 4.7V. See EXTVCC Connection in  the Applications (See Datasheet)", 21 PGND (power) "Driver Power Ground. Connects to the  sources of bottom (synchronous) N-channel MOSFETs,  anodes of the Schottky recti? ers and the (-) terminal(s)  of CIN.", 22 VIN (power) "Main Supply Pin. A bypass capacitor should  be tied between this pin and the signal ground pin.", 33 EP (power) "Small Signal Ground common to both  controllers, must be routed separately from high current  grounds to the common (-) terminals of the CIN capacitors. The Exposed Pad is SGND. It must be soldered to  PCB ground for rated (See Datasheet)"